# Altium footprint library BBGA-1152.PcbLib: 1 footprints
Each footprint in its own frame and in the unit in brackets; x right, y up, seen from the top. Pads: shape width x height; smd on the part's side, far side on the other; paste and mask are expansions set on the pad; w line width, h text height; cw(c..) or ccw(c..) is an arc to the next point about the centre after c.
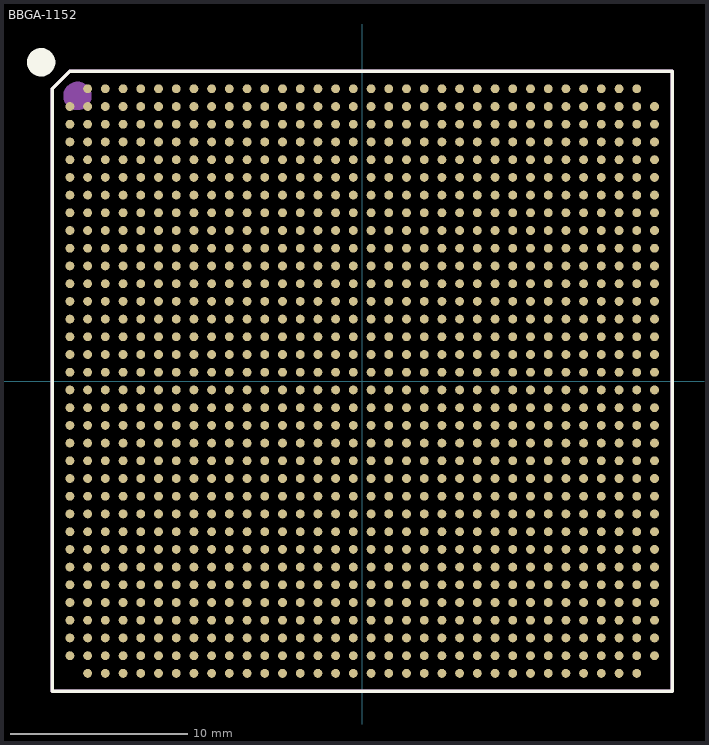
[diagram p0: the footprint, top view; thin cyan lines are the x and y axes]

## BBGA-1152 [mil]
height 35.43
pads (1152):
  rrect100% 19.69x19.69 smd: A2(-610.24,649.61) A3(-570.87,649.61) A4(-531.5,649.61) A5(-492.13,649.61) A6(-452.76,649.61) A7(-413.39,649.61) A8(-374.02,649.61) A9(-334.65,649.61) A10(-295.28,649.61) A11(-255.91,649.61) A12(-216.54,649.61) A13(-177.17,649.61) A14(-137.8,649.61) A15(-98.43,649.61) A16(-59.06,649.61) A17(-19.69,649.61) A18(19.69,649.61) A19(59.06,649.61) A20(98.43,649.61) A21(137.8,649.61) A22(177.17,649.61) A23(216.54,649.61) A24(255.91,649.61) A25(295.28,649.61) A26(334.65,649.61) A27(374.02,649.61) A28(413.39,649.61) A29(452.76,649.61) A30(492.13,649.61) A31(531.5,649.61) A32(570.87,649.61) A33(610.24,649.61) AA1(-649.61,-137.8) AA2(-610.24,-137.8) AA3(-570.87,-137.8) AA4(-531.5,-137.8) AA5(-492.13,-137.8) AA6(-452.76,-137.8) AA7(-413.39,-137.8) AA8(-374.02,-137.8) AA9(-334.65,-137.8) AA10(-295.28,-137.8) AA11(-255.91,-137.8) AA12(-216.54,-137.8) AA13(-177.17,-137.8) AA14(-137.8,-137.8) AA15(-98.43,-137.8) AA16(-59.06,-137.8) AA17(-19.69,-137.8) AA18(19.69,-137.8) AA19(59.06,-137.8) AA20(98.43,-137.8) AA21(137.8,-137.8) AA22(177.17,-137.8) AA23(216.54,-137.8) AA24(255.91,-137.8) AA25(295.28,-137.8) AA26(334.65,-137.8) AA27(374.02,-137.8) AA28(413.39,-137.8) AA29(452.76,-137.8) AA30(492.13,-137.8) AA31(531.5,-137.8) AA32(570.87,-137.8) AA33(610.24,-137.8) AA34(649.61,-137.8) AB1(-649.61,-177.17) AB2(-610.24,-177.17) AB3(-570.87,-177.17) AB4(-531.5,-177.17) AB5(-492.13,-177.17) AB6(-452.76,-177.17) AB7(-413.39,-177.17) AB8(-374.02,-177.17) AB9(-334.65,-177.17) AB10(-295.28,-177.17) AB11(-255.91,-177.17) AB12(-216.54,-177.17) AB13(-177.17,-177.17) AB14(-137.8,-177.17) AB15(-98.43,-177.17) AB16(-59.06,-177.17) AB17(-19.69,-177.17) AB18(19.69,-177.17) AB19(59.06,-177.17) AB20(98.43,-177.17) AB21(137.8,-177.17) AB22(177.17,-177.17) AB23(216.54,-177.17) AB24(255.91,-177.17) AB25(295.28,-177.17) AB26(334.65,-177.17) AB27(374.02,-177.17) AB28(413.39,-177.17) AB29(452.76,-177.17) AB30(492.13,-177.17) AB31(531.5,-177.17) AB32(570.87,-177.17) AB33(610.24,-177.17) AB34(649.61,-177.17) AC1(-649.61,-216.54) AC2(-610.24,-216.54) AC3(-570.87,-216.54) AC4(-531.5,-216.54) AC5(-492.13,-216.54) AC6(-452.76,-216.54) AC7(-413.39,-216.54) AC8(-374.02,-216.54) AC9(-334.65,-216.54) AC10(-295.28,-216.54) AC11(-255.91,-216.54) AC12(-216.54,-216.54) AC13(-177.17,-216.54) AC14(-137.8,-216.54) AC15(-98.43,-216.54) AC16(-59.06,-216.54) AC17(-19.69,-216.54) AC18(19.69,-216.54) AC19(59.06,-216.54) AC20(98.43,-216.54) AC21(137.8,-216.54) AC22(177.17,-216.54) AC23(216.54,-216.54) AC24(255.91,-216.54) AC25(295.28,-216.54) AC26(334.65,-216.54) AC27(374.02,-216.54) AC28(413.39,-216.54) AC29(452.76,-216.54) AC30(492.13,-216.54) AC31(531.5,-216.54) AC32(570.87,-216.54) AC33(610.24,-216.54) AC34(649.61,-216.54) AD1(-649.61,-255.91) AD2(-610.24,-255.91) AD3(-570.87,-255.91) AD4(-531.5,-255.91) AD5(-492.13,-255.91) AD6(-452.76,-255.91) AD7(-413.39,-255.91) AD8(-374.02,-255.91) AD9(-334.65,-255.91) AD10(-295.28,-255.91) AD11(-255.91,-255.91) AD12(-216.54,-255.91) AD13(-177.17,-255.91) AD14(-137.8,-255.91) AD15(-98.43,-255.91) AD16(-59.06,-255.91) AD17(-19.69,-255.91) AD18(19.69,-255.91) AD19(59.06,-255.91) AD20(98.43,-255.91) AD21(137.8,-255.91) AD22(177.17,-255.91) AD23(216.54,-255.91) AD24(255.91,-255.91) AD25(295.28,-255.91) AD26(334.65,-255.91) AD27(374.02,-255.91) AD28(413.39,-255.91) AD29(452.76,-255.91) AD30(492.13,-255.91) AD31(531.5,-255.91) AD32(570.87,-255.91) AD33(610.24,-255.91) AD34(649.61,-255.91) AE1(-649.61,-295.28) AE2(-610.24,-295.28) AE3(-570.87,-295.28) AE4(-531.5,-295.28) AE5(-492.13,-295.28) AE6(-452.76,-295.28) AE7(-413.39,-295.28) AE8(-374.02,-295.28) AE9(-334.65,-295.28) AE10(-295.28,-295.28) AE11(-255.91,-295.28) AE12(-216.54,-295.28) AE13(-177.17,-295.28) AE14(-137.8,-295.28) AE15(-98.43,-295.28) AE16(-59.06,-295.28) AE17(-19.69,-295.28) AE18(19.69,-295.28) AE19(59.06,-295.28) AE20(98.43,-295.28) AE21(137.8,-295.28) AE22(177.17,-295.28) AE23(216.54,-295.28) AE24(255.91,-295.28) AE25(295.28,-295.28) AE26(334.65,-295.28) AE27(374.02,-295.28) AE28(413.39,-295.28) AE29(452.76,-295.28) AE30(492.13,-295.28) AE31(531.5,-295.28) AE32(570.87,-295.28) AE33(610.24,-295.28) AE34(649.61,-295.28) AF1(-649.61,-334.65) AF2(-610.24,-334.65) AF3(-570.87,-334.65) AF4(-531.5,-334.65) AF5(-492.13,-334.65) AF6(-452.76,-334.65) AF7(-413.39,-334.65) AF8(-374.02,-334.65) AF9(-334.65,-334.65) AF10(-295.28,-334.65) AF11(-255.91,-334.65) AF12(-216.54,-334.65) AF13(-177.17,-334.65) AF14(-137.8,-334.65) AF15(-98.43,-334.65) AF16(-59.06,-334.65) AF17(-19.69,-334.65) AF18(19.69,-334.65) AF19(59.06,-334.65) AF20(98.43,-334.65) AF21(137.8,-334.65) AF22(177.17,-334.65) AF23(216.54,-334.65) AF24(255.91,-334.65) AF25(295.28,-334.65) AF26(334.65,-334.65) AF27(374.02,-334.65) AF28(413.39,-334.65) AF29(452.76,-334.65) AF30(492.13,-334.65) AF31(531.5,-334.65) AF32(570.87,-334.65) AF33(610.24,-334.65) AF34(649.61,-334.65) AG1(-649.61,-374.02) AG2(-610.24,-374.02) AG3(-570.87,-374.02) AG4(-531.5,-374.02) AG5(-492.13,-374.02) AG6(-452.76,-374.02) AG7(-413.39,-374.02) AG8(-374.02,-374.02) AG9(-334.65,-374.02) AG10(-295.28,-374.02) AG11(-255.91,-374.02) AG12(-216.54,-374.02) AG13(-177.17,-374.02) AG14(-137.8,-374.02) AG15(-98.43,-374.02) AG16(-59.06,-374.02) AG17(-19.69,-374.02) AG18(19.69,-374.02) AG19(59.06,-374.02) AG20(98.43,-374.02) AG21(137.8,-374.02) AG22(177.17,-374.02) AG23(216.54,-374.02) AG24(255.91,-374.02) AG25(295.28,-374.02) AG26(334.65,-374.02) AG27(374.02,-374.02) AG28(413.39,-374.02) AG29(452.76,-374.02) AG30(492.13,-374.02) AG31(531.5,-374.02) AG32(570.87,-374.02) AG33(610.24,-374.02) AG34(649.61,-374.02) AH1(-649.61,-413.39) AH2(-610.24,-413.39) AH3(-570.87,-413.39) AH4(-531.5,-413.39) AH5(-492.13,-413.39) AH6(-452.76,-413.39) AH7(-413.39,-413.39) AH8(-374.02,-413.39) AH9(-334.65,-413.39) AH10(-295.28,-413.39) AH11(-255.91,-413.39) AH12(-216.54,-413.39) AH13(-177.17,-413.39) AH14(-137.8,-413.39) AH15(-98.43,-413.39) AH16(-59.06,-413.39) AH17(-19.69,-413.39) AH18(19.69,-413.39) AH19(59.06,-413.39) AH20(98.43,-413.39) AH21(137.8,-413.39) AH22(177.17,-413.39) AH23(216.54,-413.39) AH24(255.91,-413.39) AH25(295.28,-413.39) AH26(334.65,-413.39) AH27(374.02,-413.39) AH28(413.39,-413.39) AH29(452.76,-413.39) AH30(492.13,-413.39) AH31(531.5,-413.39) AH32(570.87,-413.39) AH33(610.24,-413.39) AH34(649.61,-413.39) AJ1(-649.61,-452.76) AJ2(-610.24,-452.76) AJ3(-570.87,-452.76) AJ4(-531.5,-452.76) AJ5(-492.13,-452.76) AJ6(-452.76,-452.76) AJ7(-413.39,-452.76) AJ8(-374.02,-452.76) AJ9(-334.65,-452.76) AJ10(-295.28,-452.76) AJ11(-255.91,-452.76) AJ12(-216.54,-452.76) AJ13(-177.17,-452.76) AJ14(-137.8,-452.76) AJ15(-98.43,-452.76) AJ16(-59.06,-452.76) AJ17(-19.69,-452.76) AJ18(19.69,-452.76) AJ19(59.06,-452.76) AJ20(98.43,-452.76) AJ21(137.8,-452.76) AJ22(177.17,-452.76) AJ23(216.54,-452.76) AJ24(255.91,-452.76) AJ25(295.28,-452.76) AJ26(334.65,-452.76) AJ27(374.02,-452.76) AJ28(413.39,-452.76) AJ29(452.76,-452.76) AJ30(492.13,-452.76) AJ31(531.5,-452.76) AJ32(570.87,-452.76) AJ33(610.24,-452.76) AJ34(649.61,-452.76) AK1(-649.61,-492.13) AK2(-610.24,-492.13) AK3(-570.87,-492.13) AK4(-531.5,-492.13) AK5(-492.13,-492.13) AK6(-452.76,-492.13) AK7(-413.39,-492.13) AK8(-374.02,-492.13) AK9(-334.65,-492.13) AK10(-295.28,-492.13) AK11(-255.91,-492.13) AK12(-216.54,-492.13) AK13(-177.17,-492.13) AK14(-137.8,-492.13) AK15(-98.43,-492.13) AK16(-59.06,-492.13) AK17(-19.69,-492.13) AK18(19.69,-492.13) AK19(59.06,-492.13) AK20(98.43,-492.13) AK21(137.8,-492.13) AK22(177.17,-492.13) AK23(216.54,-492.13) AK24(255.91,-492.13) AK25(295.28,-492.13) AK26(334.65,-492.13) AK27(374.02,-492.13) AK28(413.39,-492.13) AK29(452.76,-492.13) AK30(492.13,-492.13) AK31(531.5,-492.13) AK32(570.87,-492.13) AK33(610.24,-492.13) AK34(649.61,-492.13) AL1(-649.61,-531.5) AL2(-610.24,-531.5) AL3(-570.87,-531.5) AL4(-531.5,-531.5) AL5(-492.13,-531.5) AL6(-452.76,-531.5) AL7(-413.39,-531.5) AL8(-374.02,-531.5) AL9(-334.65,-531.5) AL10(-295.28,-531.5) AL11(-255.91,-531.5) AL12(-216.54,-531.5) AL13(-177.17,-531.5) AL14(-137.8,-531.5) AL15(-98.43,-531.5) AL16(-59.06,-531.5) AL17(-19.69,-531.5) AL18(19.69,-531.5) AL19(59.06,-531.5) AL20(98.43,-531.5) AL21(137.8,-531.5) AL22(177.17,-531.5) AL23(216.54,-531.5) AL24(255.91,-531.5) AL25(295.28,-531.5) AL26(334.65,-531.5) AL27(374.02,-531.5) AL28(413.39,-531.5) AL29(452.76,-531.5) AL30(492.13,-531.5) AL31(531.5,-531.5) AL32(570.87,-531.5) AL33(610.24,-531.5) AL34(649.61,-531.5) AM1(-649.61,-570.87) AM2(-610.24,-570.87) AM3(-570.87,-570.87) AM4(-531.5,-570.87) AM5(-492.13,-570.87) AM6(-452.76,-570.87) AM7(-413.39,-570.87) AM8(-374.02,-570.87) AM9(-334.65,-570.87) AM10(-295.28,-570.87) AM11(-255.91,-570.87) AM12(-216.54,-570.87) AM13(-177.17,-570.87) AM14(-137.8,-570.87) AM15(-98.43,-570.87) AM16(-59.06,-570.87) AM17(-19.69,-570.87) AM18(19.69,-570.87) AM19(59.06,-570.87) AM20(98.43,-570.87) AM21(137.8,-570.87) AM22(177.17,-570.87) AM23(216.54,-570.87) AM24(255.91,-570.87) AM25(295.28,-570.87) AM26(334.65,-570.87) AM27(374.02,-570.87) AM28(413.39,-570.87) AM29(452.76,-570.87) AM30(492.13,-570.87) AM31(531.5,-570.87) AM32(570.87,-570.87) AM33(610.24,-570.87) AM34(649.61,-570.87) AN1(-649.61,-610.24) AN2(-610.24,-610.24) AN3(-570.87,-610.24) AN4(-531.5,-610.24) AN5(-492.13,-610.24) AN6(-452.76,-610.24) AN7(-413.39,-610.24) AN8(-374.02,-610.24) AN9(-334.65,-610.24) AN10(-295.28,-610.24) AN11(-255.91,-610.24) AN12(-216.54,-610.24) AN13(-177.17,-610.24) AN14(-137.8,-610.24) AN15(-98.43,-610.24) AN16(-59.06,-610.24) AN17(-19.69,-610.24) AN18(19.69,-610.24) AN19(59.06,-610.24) AN20(98.43,-610.24) AN21(137.8,-610.24) AN22(177.17,-610.24) AN23(216.54,-610.24) AN24(255.91,-610.24) AN25(295.28,-610.24) AN26(334.65,-610.24) AN27(374.02,-610.24) AN28(413.39,-610.24) AN29(452.76,-610.24) AN30(492.13,-610.24) AN31(531.5,-610.24) AN32(570.87,-610.24) AN33(610.24,-610.24) AN34(649.61,-610.24) AP2(-610.24,-649.61) AP3(-570.87,-649.61) AP4(-531.5,-649.61) AP5(-492.13,-649.61) AP6(-452.76,-649.61) AP7(-413.39,-649.61) AP8(-374.02,-649.61) AP9(-334.65,-649.61) AP10(-295.28,-649.61) AP11(-255.91,-649.61) AP12(-216.54,-649.61) AP13(-177.17,-649.61) AP14(-137.8,-649.61) AP15(-98.43,-649.61) AP16(-59.06,-649.61) AP17(-19.69,-649.61) AP18(19.69,-649.61) AP19(59.06,-649.61) AP20(98.43,-649.61) AP21(137.8,-649.61) AP22(177.17,-649.61) AP23(216.54,-649.61) AP24(255.91,-649.61) AP25(295.28,-649.61) AP26(334.65,-649.61) AP27(374.02,-649.61) AP28(413.39,-649.61) AP29(452.76,-649.61) AP30(492.13,-649.61) AP31(531.5,-649.61) AP32(570.87,-649.61) AP33(610.24,-649.61) B1(-649.61,610.24) B2(-610.24,610.24) B3(-570.87,610.24) B4(-531.5,610.24) B5(-492.13,610.24) B6(-452.76,610.24) B7(-413.39,610.24) B8(-374.02,610.24) B9(-334.65,610.24) B10(-295.28,610.24) B11(-255.91,610.24) B12(-216.54,610.24) B13(-177.17,610.24) B14(-137.8,610.24) B15(-98.43,610.24) B16(-59.06,610.24) B17(-19.69,610.24) B18(19.69,610.24) B19(59.06,610.24) B20(98.43,610.24) B21(137.8,610.24) B22(177.17,610.24) B23(216.54,610.24) B24(255.91,610.24) B25(295.28,610.24) B26(334.65,610.24) B27(374.02,610.24) B28(413.39,610.24) B29(452.76,610.24) B30(492.13,610.24) B31(531.5,610.24) B32(570.87,610.24) B33(610.24,610.24) B34(649.61,610.24) C1(-649.61,570.87) C2(-610.24,570.87) C3(-570.87,570.87) C4(-531.5,570.87) C5(-492.13,570.87) C6(-452.76,570.87) C7(-413.39,570.87) C8(-374.02,570.87) C9(-334.65,570.87) C10(-295.28,570.87) C11(-255.91,570.87) C12(-216.54,570.87) C13(-177.17,570.87) C14(-137.8,570.87) C15(-98.43,570.87) C16(-59.06,570.87) C17(-19.69,570.87) C18(19.69,570.87) C19(59.06,570.87) C20(98.43,570.87) C21(137.8,570.87) C22(177.17,570.87) C23(216.54,570.87) C24(255.91,570.87) C25(295.28,570.87) C26(334.65,570.87) C27(374.02,570.87) C28(413.39,570.87) C29(452.76,570.87) C30(492.13,570.87) C31(531.5,570.87) C32(570.87,570.87) C33(610.24,570.87) C34(649.61,570.87) D1(-649.61,531.5) D2(-610.24,531.5) D3(-570.87,531.5) D4(-531.5,531.5) D5(-492.13,531.5) D6(-452.76,531.5) D7(-413.39,531.5) D8(-374.02,531.5) D9(-334.65,531.5) D10(-295.28,531.5) D11(-255.91,531.5) D12(-216.54,531.5) D13(-177.17,531.5) D14(-137.8,531.5) D15(-98.43,531.5) D16(-59.06,531.5) D17(-19.69,531.5) D18(19.69,531.5) D19(59.06,531.5) D20(98.43,531.5) D21(137.8,531.5) D22(177.17,531.5) D23(216.54,531.5) D24(255.91,531.5) D25(295.28,531.5) D26(334.65,531.5) D27(374.02,531.5) D28(413.39,531.5) D29(452.76,531.5) D30(492.13,531.5) D31(531.5,531.5) D32(570.87,531.5) D33(610.24,531.5) D34(649.61,531.5) E1(-649.61,492.13) E2(-610.24,492.13) E3(-570.87,492.13) E4(-531.5,492.13) E5(-492.13,492.13) E6(-452.76,492.13) E7(-413.39,492.13) E8(-374.02,492.13) E9(-334.65,492.13) E10(-295.28,492.13) E11(-255.91,492.13) E12(-216.54,492.13) E13(-177.17,492.13) E14(-137.8,492.13) E15(-98.43,492.13) E16(-59.06,492.13) E17(-19.69,492.13) E18(19.69,492.13) E19(59.06,492.13) E20(98.43,492.13) E21(137.8,492.13) E22(177.17,492.13) E23(216.54,492.13) E24(255.91,492.13) E25(295.28,492.13) E26(334.65,492.13) E27(374.02,492.13) E28(413.39,492.13) E29(452.76,492.13) E30(492.13,492.13) E31(531.5,492.13) E32(570.87,492.13) E33(610.24,492.13) E34(649.61,492.13) F1(-649.61,452.76) F2(-610.24,452.76) F3(-570.87,452.76) F4(-531.5,452.76) F5(-492.13,452.76) F6(-452.76,452.76) F7(-413.39,452.76) F8(-374.02,452.76) F9(-334.65,452.76) F10(-295.28,452.76) F11(-255.91,452.76) F12(-216.54,452.76) F13(-177.17,452.76) F14(-137.8,452.76) F15(-98.43,452.76) F16(-59.06,452.76) F17(-19.69,452.76) F18(19.69,452.76) F19(59.06,452.76) F20(98.43,452.76) F21(137.8,452.76) F22(177.17,452.76) F23(216.54,452.76) F24(255.91,452.76) F25(295.28,452.76) F26(334.65,452.76) F27(374.02,452.76) F28(413.39,452.76) F29(452.76,452.76) F30(492.13,452.76) F31(531.5,452.76) F32(570.87,452.76) F33(610.24,452.76) F34(649.61,452.76) G1(-649.61,413.39) G2(-610.24,413.39) G3(-570.87,413.39) G4(-531.5,413.39) G5(-492.13,413.39) G6(-452.76,413.39) G7(-413.39,413.39) G8(-374.02,413.39) G9(-334.65,413.39) G10(-295.28,413.39) G11(-255.91,413.39) G12(-216.54,413.39) G13(-177.17,413.39) G14(-137.8,413.39) G15(-98.43,413.39) G16(-59.06,413.39) G17(-19.69,413.39) G18(19.69,413.39) G19(59.06,413.39) G20(98.43,413.39) G21(137.8,413.39) G22(177.17,413.39) G23(216.54,413.39) G24(255.91,413.39) G25(295.28,413.39) G26(334.65,413.39) G27(374.02,413.39) G28(413.39,413.39) G29(452.76,413.39) G30(492.13,413.39) G31(531.5,413.39) G32(570.87,413.39) G33(610.24,413.39) G34(649.61,413.39) H1(-649.61,374.02) H2(-610.24,374.02) H3(-570.87,374.02) H4(-531.5,374.02) H5(-492.13,374.02) H6(-452.76,374.02) H7(-413.39,374.02) H8(-374.02,374.02) H9(-334.65,374.02) H10(-295.28,374.02) H11(-255.91,374.02) H12(-216.54,374.02) H13(-177.17,374.02) H14(-137.8,374.02) H15(-98.43,374.02) H16(-59.06,374.02) H17(-19.69,374.02) H18(19.69,374.02) H19(59.06,374.02) H20(98.43,374.02) H21(137.8,374.02) H22(177.17,374.02) H23(216.54,374.02) H24(255.91,374.02) H25(295.28,374.02) H26(334.65,374.02) H27(374.02,374.02) H28(413.39,374.02) H29(452.76,374.02) H30(492.13,374.02) H31(531.5,374.02) H32(570.87,374.02) H33(610.24,374.02) H34(649.61,374.02) J1(-649.61,334.65) J2(-610.24,334.65) J3(-570.87,334.65) J4(-531.5,334.65) J5(-492.13,334.65) J6(-452.76,334.65) J7(-413.39,334.65) J8(-374.02,334.65) J9(-334.65,334.65) J10(-295.28,334.65) J11(-255.91,334.65) J12(-216.54,334.65) J13(-177.17,334.65) J14(-137.8,334.65) J15(-98.43,334.65) J16(-59.06,334.65) J17(-19.69,334.65) J18(19.69,334.65) J19(59.06,334.65) J20(98.43,334.65) J21(137.8,334.65) J22(177.17,334.65) J23(216.54,334.65) J24(255.91,334.65) J25(295.28,334.65) J26(334.65,334.65) J27(374.02,334.65) J28(413.39,334.65) J29(452.76,334.65) J30(492.13,334.65) J31(531.5,334.65) J32(570.87,334.65) J33(610.24,334.65) J34(649.61,334.65) K1(-649.61,295.28) K2(-610.24,295.28) K3(-570.87,295.28) K4(-531.5,295.28) K5(-492.13,295.28) K6(-452.76,295.28) K7(-413.39,295.28) K8(-374.02,295.28) K9(-334.65,295.28) K10(-295.28,295.28) K11(-255.91,295.28) K12(-216.54,295.28) K13(-177.17,295.28) K14(-137.8,295.28) K15(-98.43,295.28) K16(-59.06,295.28) K17(-19.69,295.28) K18(19.69,295.28) K19(59.06,295.28) K20(98.43,295.28) K21(137.8,295.28) K22(177.17,295.28) K23(216.54,295.28) K24(255.91,295.28) K25(295.28,295.28) K26(334.65,295.28) K27(374.02,295.28) K28(413.39,295.28) K29(452.76,295.28) K30(492.13,295.28) K31(531.5,295.28) K32(570.87,295.28) K33(610.24,295.28) K34(649.61,295.28) L1(-649.61,255.91) L2(-610.24,255.91) L3(-570.87,255.91) L4(-531.5,255.91) L5(-492.13,255.91) L6(-452.76,255.91) L7(-413.39,255.91) L8(-374.02,255.91) L9(-334.65,255.91) L10(-295.28,255.91) L11(-255.91,255.91) L12(-216.54,255.91) L13(-177.17,255.91) L14(-137.8,255.91) L15(-98.43,255.91) L16(-59.06,255.91) L17(-19.69,255.91) L18(19.69,255.91) L19(59.06,255.91) L20(98.43,255.91) L21(137.8,255.91) L22(177.17,255.91) L23(216.54,255.91) L24(255.91,255.91) L25(295.28,255.91) L26(334.65,255.91) L27(374.02,255.91) L28(413.39,255.91) L29(452.76,255.91) L30(492.13,255.91) L31(531.5,255.91) L32(570.87,255.91) L33(610.24,255.91) L34(649.61,255.91) M1(-649.61,216.54) M2(-610.24,216.54) M3(-570.87,216.54) M4(-531.5,216.54) M5(-492.13,216.54) M6(-452.76,216.54) M7(-413.39,216.54) M8(-374.02,216.54) M9(-334.65,216.54) M10(-295.28,216.54) M11(-255.91,216.54) M12(-216.54,216.54) M13(-177.17,216.54) M14(-137.8,216.54) M15(-98.43,216.54) M16(-59.06,216.54) M17(-19.69,216.54) M18(19.69,216.54) M19(59.06,216.54) M20(98.43,216.54) M21(137.8,216.54) M22(177.17,216.54) M23(216.54,216.54) M24(255.91,216.54) M25(295.28,216.54) M26(334.65,216.54) M27(374.02,216.54) M28(413.39,216.54) M29(452.76,216.54) M30(492.13,216.54) M31(531.5,216.54) M32(570.87,216.54) M33(610.24,216.54) M34(649.61,216.54) N1(-649.61,177.17) N2(-610.24,177.17) N3(-570.87,177.17) N4(-531.5,177.17) N5(-492.13,177.17) N6(-452.76,177.17) N7(-413.39,177.17) N8(-374.02,177.17) N9(-334.65,177.17) N10(-295.28,177.17) N11(-255.91,177.17) N12(-216.54,177.17) N13(-177.17,177.17) N14(-137.8,177.17) N15(-98.43,177.17) N16(-59.06,177.17) N17(-19.69,177.17) N18(19.69,177.17) N19(59.06,177.17) N20(98.43,177.17) N21(137.8,177.17) N22(177.17,177.17) N23(216.54,177.17) N24(255.91,177.17) N25(295.28,177.17) N26(334.65,177.17) N27(374.02,177.17) N28(413.39,177.17) N29(452.76,177.17) N30(492.13,177.17) N31(531.5,177.17) N32(570.87,177.17) N33(610.24,177.17) N34(649.61,177.17) P1(-649.61,137.8) P2(-610.24,137.8) P3(-570.87,137.8) P4(-531.5,137.8) P5(-492.13,137.8) P6(-452.76,137.8) P7(-413.39,137.8) P8(-374.02,137.8) P9(-334.65,137.8) P10(-295.28,137.8) P11(-255.91,137.8) P12(-216.54,137.8) P13(-177.17,137.8) P14(-137.8,137.8) P15(-98.43,137.8) P16(-59.06,137.8) P17(-19.69,137.8) P18(19.69,137.8) P19(59.06,137.8) P20(98.43,137.8) P21(137.8,137.8) P22(177.17,137.8) P23(216.54,137.8) P24(255.91,137.8) P25(295.28,137.8) P26(334.65,137.8) P27(374.02,137.8) P28(413.39,137.8) P29(452.76,137.8) P30(492.13,137.8) P31(531.5,137.8) P32(570.87,137.8) P33(610.24,137.8) P34(649.61,137.8) R1(-649.61,98.43) R2(-610.24,98.43) R3(-570.87,98.43) R4(-531.5,98.43) R5(-492.13,98.43) R6(-452.76,98.43) R7(-413.39,98.43) R8(-374.02,98.43) R9(-334.65,98.43) R10(-295.28,98.43) R11(-255.91,98.43) R12(-216.54,98.43) R13(-177.17,98.43) R14(-137.8,98.43) R15(-98.43,98.43) R16(-59.06,98.43) R17(-19.69,98.43) R18(19.69,98.43) R19(59.06,98.43) R20(98.43,98.43) R21(137.8,98.43) R22(177.17,98.43) R23(216.54,98.43) R24(255.91,98.43) R25(295.28,98.43) R26(334.65,98.43) R27(374.02,98.43) R28(413.39,98.43) R29(452.76,98.43) R30(492.13,98.43) R31(531.5,98.43) R32(570.87,98.43) R33(610.24,98.43) R34(649.61,98.43) T1(-649.61,59.06) T2(-610.24,59.06) T3(-570.87,59.06) T4(-531.5,59.06) T5(-492.13,59.06) T6(-452.76,59.06) T7(-413.39,59.06) T8(-374.02,59.06) T9(-334.65,59.06) T10(-295.28,59.06) T11(-255.91,59.06) T12(-216.54,59.06) T13(-177.17,59.06) T14(-137.8,59.06) T15(-98.43,59.06) T16(-59.06,59.06) T17(-19.69,59.06) T18(19.69,59.06) T19(59.06,59.06) T20(98.43,59.06) T21(137.8,59.06) T22(177.17,59.06) T23(216.54,59.06) T24(255.91,59.06) T25(295.28,59.06) T26(334.65,59.06) T27(374.02,59.06) T28(413.39,59.06) T29(452.76,59.06) T30(492.13,59.06) T31(531.5,59.06) T32(570.87,59.06) T33(610.24,59.06) T34(649.61,59.06) U1(-649.61,19.69) U2(-610.24,19.69) U3(-570.87,19.69) U4(-531.5,19.69) U5(-492.13,19.69) U6(-452.76,19.69) U7(-413.39,19.69) U8(-374.02,19.69) U9(-334.65,19.69) U10(-295.28,19.69) U11(-255.91,19.69) U12(-216.54,19.69) U13(-177.17,19.69) U14(-137.8,19.69) U15(-98.43,19.69) U16(-59.06,19.69) U17(-19.69,19.69) U18(19.69,19.69) U19(59.06,19.69) U20(98.43,19.69) U21(137.8,19.69) U22(177.17,19.69) U23(216.54,19.69) U24(255.91,19.69) U25(295.28,19.69) U26(334.65,19.69) U27(374.02,19.69) U28(413.39,19.69) U29(452.76,19.69) U30(492.13,19.69) U31(531.5,19.69) U32(570.87,19.69) U33(610.24,19.69) U34(649.61,19.69) V1(-649.61,-19.69) V2(-610.24,-19.69) V3(-570.87,-19.69) V4(-531.5,-19.69) V5(-492.13,-19.69) V6(-452.76,-19.69) V7(-413.39,-19.69) V8(-374.02,-19.69) V9(-334.65,-19.69) V10(-295.28,-19.69) V11(-255.91,-19.69) V12(-216.54,-19.69) V13(-177.17,-19.69) V14(-137.8,-19.69) V15(-98.43,-19.69) V16(-59.06,-19.69) V17(-19.69,-19.69) V18(19.69,-19.69) V19(59.06,-19.69) V20(98.43,-19.69) V21(137.8,-19.69) V22(177.17,-19.69) V23(216.54,-19.69) V24(255.91,-19.69) V25(295.28,-19.69) V26(334.65,-19.69) V27(374.02,-19.69) V28(413.39,-19.69) V29(452.76,-19.69) V30(492.13,-19.69) V31(531.5,-19.69) V32(570.87,-19.69) V33(610.24,-19.69) V34(649.61,-19.69) W1(-649.61,-59.06) W2(-610.24,-59.06) W3(-570.87,-59.06) W4(-531.5,-59.06) W5(-492.13,-59.06) W6(-452.76,-59.06) W7(-413.39,-59.06) W8(-374.02,-59.06) W9(-334.65,-59.06) W10(-295.28,-59.06) W11(-255.91,-59.06) W12(-216.54,-59.06) W13(-177.17,-59.06) W14(-137.8,-59.06) W15(-98.43,-59.06) W16(-59.06,-59.06) W17(-19.69,-59.06) W18(19.69,-59.06) W19(59.06,-59.06) W20(98.43,-59.06) W21(137.8,-59.06) W22(177.17,-59.06) W23(216.54,-59.06) W24(255.91,-59.06) W25(295.28,-59.06) W26(334.65,-59.06) W27(374.02,-59.06) W28(413.39,-59.06) W29(452.76,-59.06) W30(492.13,-59.06) W31(531.5,-59.06) W32(570.87,-59.06) W33(610.24,-59.06) W34(649.61,-59.06) Y1(-649.61,-98.43) Y2(-610.24,-98.43) Y3(-570.87,-98.43) Y4(-531.5,-98.43) Y5(-492.13,-98.43) Y6(-452.76,-98.43) Y7(-413.39,-98.43) Y8(-374.02,-98.43) Y9(-334.65,-98.43) Y10(-295.28,-98.43) Y11(-255.91,-98.43) Y12(-216.54,-98.43) Y13(-177.17,-98.43) Y14(-137.8,-98.43) Y15(-98.43,-98.43) Y16(-59.06,-98.43) Y17(-19.69,-98.43) Y18(19.69,-98.43) Y19(59.06,-98.43) Y20(98.43,-98.43) Y21(137.8,-98.43) Y22(177.17,-98.43) Y23(216.54,-98.43) Y24(255.91,-98.43) Y25(295.28,-98.43) Y26(334.65,-98.43) Y27(374.02,-98.43) Y28(413.39,-98.43) Y29(452.76,-98.43) Y30(492.13,-98.43) Y31(531.5,-98.43) Y32(570.87,-98.43) Y33(610.24,-98.43) Y34(649.61,-98.43)
Top Overlay:
  circle w39.37: c-713.58,708.66 r11.81
  lines w7.87: -688.98,-688.98 688.98,-688.98 688.98,688.98 -649.61,688.98 -688.98,649.61 -688.98,-688.98
Top Assembly:
  circle w39.37: c-632.87,633.86 r11.81
  lines w7.87: -688.98,-688.98 688.98,-688.98 688.98,688.98 -649.61,688.98 -688.98,649.61 -688.98,-688.98
  text "'.Designator'" at -176.18,713.58 h27.56
3D body "10AX048H3F34E2SG.stp": height 131.89, standoff 0, extent -688.98,-688.98 688.98,688.98